# Altium footprint library SRP6060FA.PcbLib: 1 footprints
Each footprint in its own frame and in the unit in brackets; x right, y up, seen from the top. Pads: shape width x height; smd on the part's side, far side on the other; paste and mask are expansions set on the pad; w line width, h text height; cw(c..) or ccw(c..) is an arc to the next point about the centre after c.
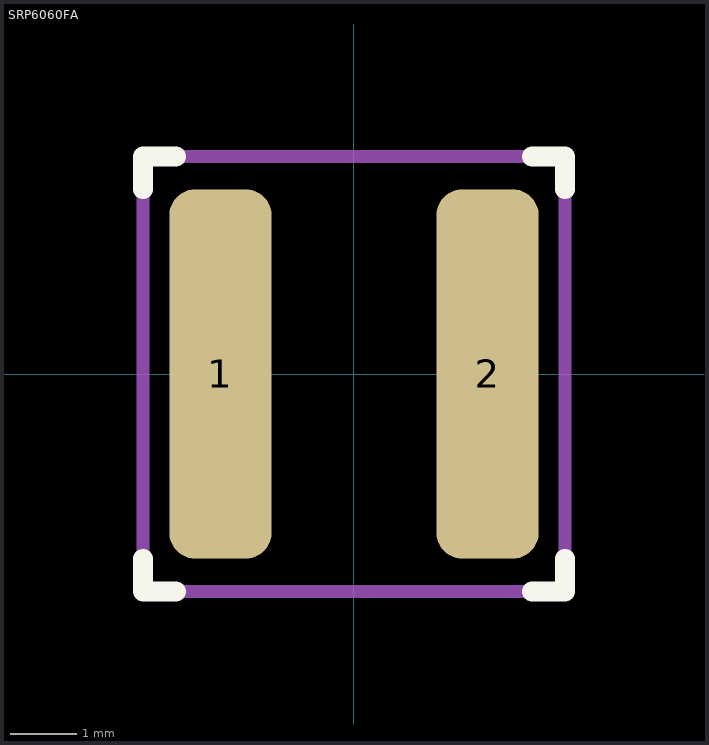
[diagram p0: the footprint, top view; thin cyan lines are the x and y axes]

## SRP6060FA [mm]
height 5.8
pads (2):
  rrect50% 1.55x5.6 smd mask+0.08: 1(-2.025,0) 2(2.025,0)
Top Overlay:
  lines w0.3: -3.2,-2.8 -3.2,-3.3 -2.7,-3.3 ; -3.2,2.8 -3.2,3.3 -2.7,3.3 ; 2.7,-3.3 3.2,-3.3 3.2,-2.8 ; 2.7,3.3 3.2,3.3 3.2,2.8
Top Assembly:
  lines w0.2: -3.2,-3.3 3.2,-3.3 3.2,3.3 -3.2,3.3 -3.2,-3.3
Top Courtyard:
  lines w0.2: -3.2,-3.3 -3.2,3.3 3.2,3.3 3.2,-3.3 -3.2,-3.3
3D body "SRP6060FA.stp": height 5.81, standoff -0.05, extent -3.2,-3.3 3.2,3.3